# EAGLE library part DDC112 (library TI)
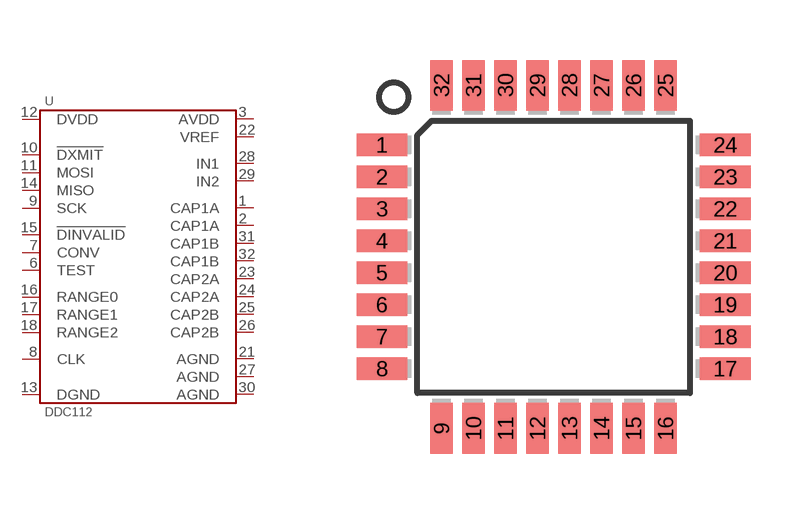
[diagram p17: symbol with the pads of TQFP-32; footprint TQFP-32]

Designator prefix U

## DDC112Y/250  [TQFP-32]
1  CAP1A
2  CAP1A
3  AVDD
6  TEST
7  CONV
8  CLK
9  SCK
10  !DXMIT
11  MOSI
12  DVDD
13  DGND
14  MISO
15  !DINVALID
16  RANGE0
17  RANGE1
18  RANGE2
21  AGND
22  VREF
23  CAP2A
24  CAP2A
25  CAP2B
26  CAP2B
27  AGND
28  IN1
29  IN2
30  AGND
31  CAP1B
32  CAP1B

## Footprint TQFP-32 (pad centres in mm)
smd 1.27 x 0.559: 1 -4.293,2.8; 2 -4.293,2; 3 -4.293,1.2; 4 -4.293,0.4; 5 -4.293,-0.4; 6 -4.293,-1.2; 7 -4.293,-2; 8 -4.293,-2.8; 17 4.293,-2.8; 18 4.293,-2; 19 4.293,-1.2; 20 4.293,-0.4; 21 4.293,0.4; 22 4.293,1.2; 23 4.293,2; 24 4.293,2.8
smd 0.559 x 1.27: 9 -2.8,-4.293; 10 -2,-4.293; 11 -1.2,-4.293; 12 -0.4,-4.293; 13 0.4,-4.293; 14 1.2,-4.293; 15 2,-4.293; 16 2.8,-4.293; 25 2.8,4.293; 26 2,4.293; 27 1.2,4.293; 28 0.4,4.293; 29 -0.4,4.293; 30 -1.2,4.293; 31 -2,4.293; 32 -2.8,4.293